# Altium schematic symbol library WeAct 4.2.SchLib: 1 symbol
Pins are listed as number, name and electrical type; pins without a type are passive.

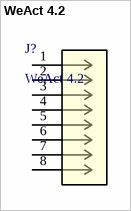
[diagram p0: symbol WeAct 4.2]

## WeAct 4.2
designator J?
2.54mm Pitch C-Grid Breakaway Header, Dual Row, Vertical, High Temperature, 8 Circuits, 0.76Âµm Gold (Au) Selective Plating, Tin (Sn) PC  Tail Plating, 2.72mm PC Tail; Manufacturer_Name: Molex Connector Corporation; Manufacturer_Part_Number: 10897080; Copyright: Copyright (C) 2025 Ultra Librarian. All rights reserved.; RefDes: RefDes; Type: Type
footprint WeAct 4.2 (Footprint not found)
pins: 1, 2, 3, 4, 5, 6, 7, 8